# EAGLE library part TDA5052AT (library Power_Modem)
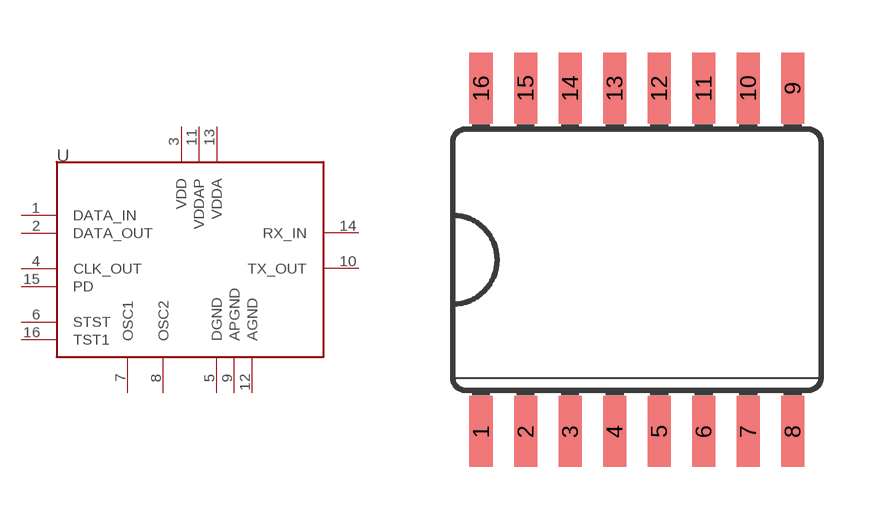
[diagram p0: symbol with the pads of SO16L; footprint SO16L]

Designator prefix -

## TDA5052AT  [SO16L]
1  DATA_IN
2  DATA_OUT
3  VDD
4  CLK_OUT
5  DGND
6  STST
7  OSC1
8  OSC2
9  APGND
10  TX_OUT
11  VDDAP
12  AGND
13  VDDA
14  RX_IN
15  PD
16  TST1

## Footprint SO16L (pad centres in mm)
Small Outline Package
smd 0.66 x 2.032: 1 -4.445,-4.902; 2 -3.175,-4.902; 3 -1.905,-4.902; 4 -0.635,-4.902; 5 0.635,-4.902; 6 1.905,-4.902; 7 3.175,-4.902; 8 4.445,-4.902; 9 4.445,4.902; 10 3.175,4.902; 11 1.905,4.902; 12 0.635,4.902; 13 -0.635,4.902; 14 -1.905,4.902; 15 -3.175,4.902; 16 -4.445,4.902